# EAGLE library part LW14 (library CodeMercenaries)
CodeMercenaries' "LED Warrior 14" DALI-I2C bridge
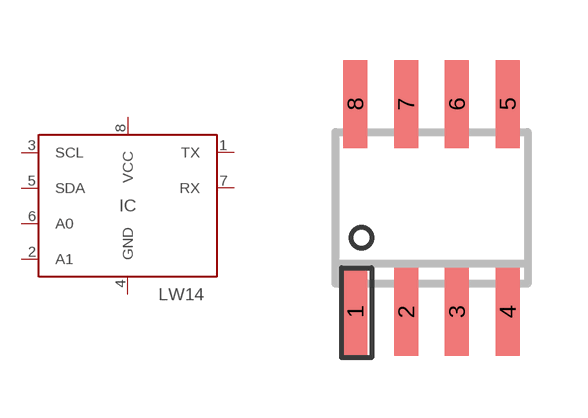
[diagram p0: symbol with the pads of SO8; footprint SO8]

Designator prefix IC

## LW14  [SO8]
1  TX
2  A1
3  SCL
4  GND  pwr
5  SDA
6  A0
7  RX
8  VCC  pwr

## Footprint SO8 (pad centres in mm)
8-Lead Small Outline IC (SO-8) Source: http://www.analog.com/UploadedFiles/Data_Sheets/703465986AD8611_2_0.pdf
smd 0.6 x 2.2: 1 -1.905,-2.6; 2 -0.635,-2.6; 3 0.635,-2.6; 4 1.905,-2.6; 5 1.905,2.6; 6 0.635,2.6; 7 -0.635,2.6; 8 -1.905,2.6